# Altium schematic symbol library nxp_sot669.SCHLIB: 1 symbol
Pins are listed as number, name and electrical type; pins without a type are passive.

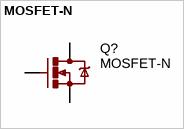
[diagram p0: symbol MOSFET-N]

## MOSFET-N
designator Q?
PROD_ID: IC-08089
footprint SOT669
pins: D, G, S